# Altium schematic symbol library MySchematics.SchLib: 2 symbols
Pins are listed as number, name and electrical type; pins without a type are passive.

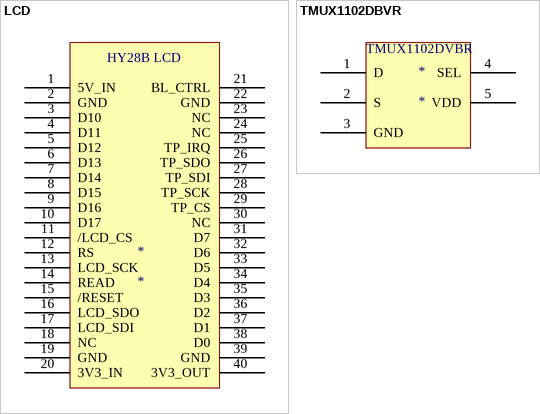
[diagram p0: symbols LCD to TMUX1102DBVR]

## LCD
designator *
footprint LCD Footprint
pins: 1 5V_IN, 2 GND, 3 D10, 4 D11, 5 D12, 6 D13, 7 D14, 8 D15, 9 D16, 10 D17, 11 /LCD_CS, 12 RS, 13 LCD_SCK, 14 READ, 15 /RESET, 16 LCD_SDO, 17 LCD_SDI, 18 NC, 19 GND, 20 3V3_IN, 21 BL_CTRL, 22 GND, 23 NC, 24 NC, 25 TP_IRQ, 26 TP_SDO, 27 TP_SDI, 28 TP_SCK, 29 TP_CS, 30 NC, 31 D7, 32 D6, 33 D5, 34 D4, 35 D3, 36 D2, 37 D1, 38 D0, 39 GND, 40 3V3_OUT
text: HY28B LCD

## TMUX1102DBVR
designator *
footprint DBV
pins: 1 D, 2 S, 3 GND, 4 SEL, 5 VDD
text: TMUX1102DVBR